# Altium integrated library analog_devices.IntLib: 2 symbols
Pins are listed as number, name and electrical type; pins without a type are passive.

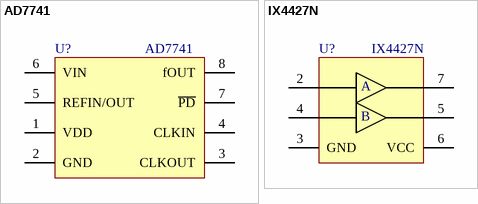
[diagram p0: symbols AD7741 to IX4427N]

## AD7741
designator U?
Single Synchronous Voltage-to-Frequency Converters
footprint SOP-8 (SOP, 8-Leads, Body 4.90x3.90mm, Pitch 1.27mm, IPC High Density)
pins: 1 VDD, 2 GND, 3 CLKOUT, 4 CLKIN, 5 REFIN/OUT, 6 VIN, 7 ~{PD}, 8 fOUT

## IX4427N
designator U?
1.5-Ampere Dual Low-Side / Ultrafast MOSFET Drivers
footprint SOP-8 (SOP, 8-Leads, Body 4.90x3.90mm, Pitch 1.27mm, IPC High Density)
pins: 2 INA, 3 GND, 4 INB, 5 OUTB, 6 VCC, 7 OUTA
text: A; B